# Altium footprint library NCV1117ST50T3G.PcbLib: 3 footprints
Each footprint in its own frame and in the unit in brackets; x right, y up, seen from the top. Pads: shape width x height; smd on the part's side, far side on the other; paste and mask are expansions set on the pad; w line width, h text height; cw(c..) or ccw(c..) is an arc to the next point about the centre after c.
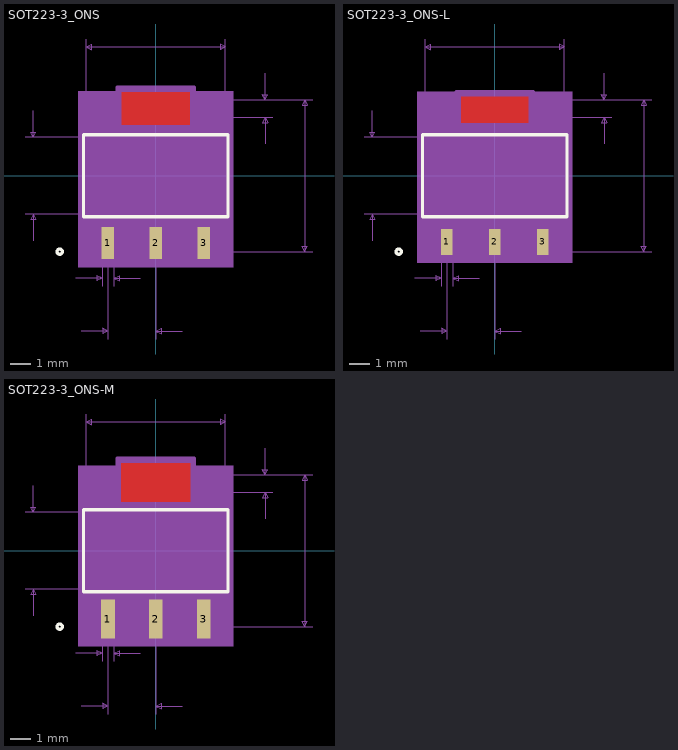
[diagram p0: the footprints below, top view; thin cyan lines are the x and y axes]

## SOT223-3_ONS [mil]
pads (3):
  rect 24x61 smd paste+0 mask+0: 1(-90.5,-127) 2(0,-127) 3(90.5,-127)
Top Layer:
  region: 64,96.5 64,157.5 -64,157.5 -64,96.5
Top Overlay:
  circle w6: c-181.5,-143.5 r5
  lines w6: -136.5,-77.5 136.5,-77.5 136.5,77.5 -136.5,77.5 -136.5,-77.5
Top Paste:
  region: 64,96.5 64,157.5 -64,157.5 -64,96.5
Top Solder:
  region: 65,82.5 65,171.5 -65,171.5 -65,82.5
Mechanical 5:
  region: -146.5,159.5 146.5,159.5 146.5,-172.5 -146.5,-172.5
Mechanical 7:
  lines w1: -246.5,-72.5 0,-72.5 ; -246.5,72.5 0,72.5 ; -231.5,-122.5 -231.5,-72.5 ; -231.5,122.5 -231.5,72.5 ; -151.5,-193.5 -101.5,-193.5 ; -140.5,-293.5 -90.5,-293.5 ; -131.5,72.5 -131.5,258.5 ; -101.5,-208.5 -101.5,-143.5 ; -90.5,-308.5 -90.5,-143.5 ; -79.5,-208.5 -79.5,-143.5 ; -29.5,-193.5 -79.5,-193.5 ; 0,-308.5 0,-143.5 296.5,-143.5 ; 0,110.5 221.5,110.5 ; 50,-293.5 0,-293.5 ; 131.5,72.5 131.5,258.5 ; 206.5,60.5 206.5,110.5 ; 206.5,193.5 206.5,143.5 ; 221.5,143.5 0,143.5 296.5,143.5 ; -231.5,-72.5 -236.5,-82.5 -226.5,-82.5 -231.5,-72.5 ; -231.5,72.5 -236.5,82.5 -226.5,82.5 -231.5,72.5 ; -131.5,243.5 131.5,243.5 ; -131.5,243.5 -121.5,248.5 -121.5,238.5 -131.5,243.5 ; -101.5,-193.5 -111.5,-188.5 -111.5,-198.5 -101.5,-193.5 ; -90.5,-293.5 -100.5,-288.5 -100.5,-298.5 -90.5,-293.5 ; -79.5,-193.5 -69.5,-188.5 -69.5,-198.5 -79.5,-193.5 ; 0,-293.5 10,-288.5 10,-298.5 0,-293.5 ; 131.5,243.5 121.5,248.5 121.5,238.5 131.5,243.5 ; 206.5,110.5 201.5,100.5 211.5,100.5 206.5,110.5 ; 206.5,143.5 201.5,153.5 211.5,153.5 206.5,143.5 ; 281.5,-143.5 281.5,143.5 ; 281.5,-143.5 276.5,-133.5 286.5,-133.5 281.5,-143.5 ; 281.5,143.5 276.5,133.5 286.5,133.5 281.5,143.5
  text "Default Pin Padstyle: RX24Y61D0T" at -400,-457.5 h50
  text "Alt 1 Padstyle: OX60Y90D30P" at -337.5,-507.5 h50
  text "Alt 2 Padstyle: OX90Y60D30P" at -337.5,-557.5 h50
  text "0.287in/7.29mm" at 301.5,-12.5 h25
  text "0.033in/0.838mm" at 226.5,114.5 h25
  text "0.09in/2.299mm" at -132.75,-338.5 h25
  text "0.022in/0.559mm" at -184.25,-238.5 h25
  text "0.263in/6.68mm" at -87.5,263.5 h25
  text "0.145in/3.683mm" at -439,-12.5 h25
Mechanical 13:
  circle w0: c-121.5,-62.5 r5
  lines w1: -131.5,-72.5 131.5,-72.5 131.5,72.5 -131.5,72.5 -131.5,-72.5 ; -101.5,-143.5 -101.5,-72.5 -79.5,-72.5 -79.5,-143.5 -101.5,-143.5 ; -63,72.5 63,72.5 63,143.5 -63,143.5 -63,72.5 ; -11,-143.5 -11,-72.5 11,-72.5 11,-143.5 -11,-143.5 ; 79.5,-143.5 79.5,-72.5 101.5,-72.5 101.5,-143.5 79.5,-143.5
Mechanical 15:
  region: -141.5,-82.5 -141.5,82.5 -73,82.5 -73,167.5 73,167.5 73,82.5 141.5,82.5 141.5,-82.5 111.5,-82.5 111.5,-167.5 -111.5,-167.5 -111.5,-82.5
  lines w6: -141.5,-82.5 -141.5,82.5 -73,82.5 -73,167.5 73,167.5 73,82.5 141.5,82.5 141.5,-82.5 111.5,-82.5 111.5,-167.5 -111.5,-167.5 -111.5,-82.5 -141.5,-82.5
3D body: height 10, standoff 0, extent 0,0 10,10

## SOT223-3_ONS-L [mil]
pads (3):
  rect 22x49 smd paste+0 mask+0: 1(-90.5,-125) 2(0,-125) 3(90.5,-125)
Top Layer:
  region: 63,100.5 63,149.5 -63,149.5 -63,100.5
Top Overlay:
  circle w6: c-181.5,-143.5 r5
  lines w6: -136.5,-77.5 136.5,-77.5 136.5,77.5 -136.5,77.5 -136.5,-77.5
Top Paste:
  region: 63,100.5 63,149.5 -63,149.5 -63,100.5
Top Solder:
  region: 63,90.5 63,155.5 -63,155.5 -63,90.5
Mechanical 5:
  region: -146.5,158.5 146.5,158.5 146.5,-164.5 -146.5,-164.5
Mechanical 7:
  lines w1: -246.5,-72.5 0,-72.5 ; -246.5,72.5 0,72.5 ; -231.5,-122.5 -231.5,-72.5 ; -231.5,122.5 -231.5,72.5 ; -151.5,-193.5 -101.5,-193.5 ; -140.5,-293.5 -90.5,-293.5 ; -131.5,72.5 -131.5,258.5 ; -101.5,-208.5 -101.5,-143.5 ; -90.5,-308.5 -90.5,-143.5 ; -79.5,-208.5 -79.5,-143.5 ; -29.5,-193.5 -79.5,-193.5 ; 0,-308.5 0,-143.5 296.5,-143.5 ; 0,110.5 221.5,110.5 ; 50,-293.5 0,-293.5 ; 131.5,72.5 131.5,258.5 ; 206.5,60.5 206.5,110.5 ; 206.5,193.5 206.5,143.5 ; 221.5,143.5 0,143.5 296.5,143.5 ; -231.5,-72.5 -236.5,-82.5 -226.5,-82.5 -231.5,-72.5 ; -231.5,72.5 -236.5,82.5 -226.5,82.5 -231.5,72.5 ; -131.5,243.5 131.5,243.5 ; -131.5,243.5 -121.5,248.5 -121.5,238.5 -131.5,243.5 ; -101.5,-193.5 -111.5,-188.5 -111.5,-198.5 -101.5,-193.5 ; -90.5,-293.5 -100.5,-288.5 -100.5,-298.5 -90.5,-293.5 ; -79.5,-193.5 -69.5,-188.5 -69.5,-198.5 -79.5,-193.5 ; 0,-293.5 10,-288.5 10,-298.5 0,-293.5 ; 131.5,243.5 121.5,248.5 121.5,238.5 131.5,243.5 ; 206.5,110.5 201.5,100.5 211.5,100.5 206.5,110.5 ; 206.5,143.5 201.5,153.5 211.5,153.5 206.5,143.5 ; 281.5,-143.5 281.5,143.5 ; 281.5,-143.5 276.5,-133.5 286.5,-133.5 281.5,-143.5 ; 281.5,143.5 276.5,133.5 286.5,133.5 281.5,143.5
  text "Default Pin Padstyle: RX22Y49D0T" at -400,-449.5 h50
  text "Alt 1 Padstyle: OX60Y90D30P" at -337.5,-499.5 h50
  text "Alt 2 Padstyle: OX90Y60D30P" at -337.5,-549.5 h50
  text "0.287in/7.29mm" at 301.5,-12.5 h25
  text "0.033in/0.838mm" at 226.5,114.5 h25
  text "0.09in/2.299mm" at -132.75,-338.5 h25
  text "0.022in/0.559mm" at -184.25,-238.5 h25
  text "0.263in/6.68mm" at -87.5,263.5 h25
  text "0.145in/3.683mm" at -439,-12.5 h25
Mechanical 13:
  circle w0: c-121.5,-62.5 r5
  lines w1: -131.5,-72.5 131.5,-72.5 131.5,72.5 -131.5,72.5 -131.5,-72.5 ; -101.5,-143.5 -101.5,-72.5 -79.5,-72.5 -79.5,-143.5 -101.5,-143.5 ; -63,72.5 63,72.5 63,143.5 -63,143.5 -63,72.5 ; -11,-143.5 -11,-72.5 11,-72.5 11,-143.5 -11,-143.5 ; 79.5,-143.5 79.5,-72.5 101.5,-72.5 101.5,-143.5 79.5,-143.5
Mechanical 15:
  region: -141.5,-82.5 -141.5,82.5 -73,82.5 -73,159.5 73,159.5 73,82.5 141.5,82.5 141.5,-82.5 111.5,-82.5 111.5,-159.5 -111.5,-159.5 -111.5,-82.5
  lines w6: -141.5,-82.5 -141.5,82.5 -73,82.5 -73,159.5 73,159.5 73,82.5 141.5,82.5 141.5,-82.5 111.5,-82.5 111.5,-159.5 -111.5,-159.5 -111.5,-82.5 -141.5,-82.5
3D body: height 10, standoff 0, extent 0,0 10,10

## SOT223-3_ONS-M [mil]
pads (3):
  rect 26x73 smd paste+0 mask+0: 1(-90.5,-129) 2(0,-129) 3(90.5,-129)
Top Layer:
  region: 65,92.5 65,165.5 -65,165.5 -65,92.5
Top Overlay:
  circle w6: c-181.5,-143.5 r5
  lines w6: -136.5,-77.5 136.5,-77.5 136.5,77.5 -136.5,77.5 -136.5,-77.5
Top Paste:
  region: 65,92.5 65,165.5 -65,165.5 -65,92.5
Top Solder:
  region: 67,74.5 67,187.5 -67,187.5 -67,74.5
Mechanical 5:
  region: -146.5,160.5 146.5,160.5 146.5,-180.5 -146.5,-180.5
Mechanical 7:
  lines w1: -246.5,-72.5 0,-72.5 ; -246.5,72.5 0,72.5 ; -231.5,-122.5 -231.5,-72.5 ; -231.5,122.5 -231.5,72.5 ; -151.5,-193.5 -101.5,-193.5 ; -140.5,-293.5 -90.5,-293.5 ; -131.5,72.5 -131.5,258.5 ; -101.5,-208.5 -101.5,-143.5 ; -90.5,-308.5 -90.5,-143.5 ; -79.5,-208.5 -79.5,-143.5 ; -29.5,-193.5 -79.5,-193.5 ; 0,-308.5 0,-143.5 296.5,-143.5 ; 0,110.5 221.5,110.5 ; 50,-293.5 0,-293.5 ; 131.5,72.5 131.5,258.5 ; 206.5,60.5 206.5,110.5 ; 206.5,193.5 206.5,143.5 ; 221.5,143.5 0,143.5 296.5,143.5 ; -231.5,-72.5 -236.5,-82.5 -226.5,-82.5 -231.5,-72.5 ; -231.5,72.5 -236.5,82.5 -226.5,82.5 -231.5,72.5 ; -131.5,243.5 131.5,243.5 ; -131.5,243.5 -121.5,248.5 -121.5,238.5 -131.5,243.5 ; -101.5,-193.5 -111.5,-188.5 -111.5,-198.5 -101.5,-193.5 ; -90.5,-293.5 -100.5,-288.5 -100.5,-298.5 -90.5,-293.5 ; -79.5,-193.5 -69.5,-188.5 -69.5,-198.5 -79.5,-193.5 ; 0,-293.5 10,-288.5 10,-298.5 0,-293.5 ; 131.5,243.5 121.5,248.5 121.5,238.5 131.5,243.5 ; 206.5,110.5 201.5,100.5 211.5,100.5 206.5,110.5 ; 206.5,143.5 201.5,153.5 211.5,153.5 206.5,143.5 ; 281.5,-143.5 281.5,143.5 ; 281.5,-143.5 276.5,-133.5 286.5,-133.5 281.5,-143.5 ; 281.5,143.5 276.5,133.5 286.5,133.5 281.5,143.5
  text "Default Pin Padstyle: RX26Y73D0T" at -400,-465.5 h50
  text "Alt 1 Padstyle: OX60Y90D30P" at -337.5,-515.5 h50
  text "Alt 2 Padstyle: OX90Y60D30P" at -337.5,-565.5 h50
  text "0.287in/7.29mm" at 301.5,-12.5 h25
  text "0.033in/0.838mm" at 226.5,114.5 h25
  text "0.09in/2.299mm" at -132.75,-338.5 h25
  text "0.022in/0.559mm" at -184.25,-238.5 h25
  text "0.263in/6.68mm" at -87.5,263.5 h25
  text "0.145in/3.683mm" at -439,-12.5 h25
Mechanical 13:
  circle w0: c-121.5,-62.5 r5
  lines w1: -131.5,-72.5 131.5,-72.5 131.5,72.5 -131.5,72.5 -131.5,-72.5 ; -101.5,-143.5 -101.5,-72.5 -79.5,-72.5 -79.5,-143.5 -101.5,-143.5 ; -63,72.5 63,72.5 63,143.5 -63,143.5 -63,72.5 ; -11,-143.5 -11,-72.5 11,-72.5 11,-143.5 -11,-143.5 ; 79.5,-143.5 79.5,-72.5 101.5,-72.5 101.5,-143.5 79.5,-143.5
Mechanical 15:
  region: -141.5,-82.5 -141.5,82.5 -73,82.5 -73,175.5 73,175.5 73,82.5 141.5,82.5 141.5,-82.5 111.5,-82.5 111.5,-175.5 -111.5,-175.5 -111.5,-82.5
  lines w6: -141.5,-82.5 -141.5,82.5 -73,82.5 -73,175.5 73,175.5 73,82.5 141.5,82.5 141.5,-82.5 111.5,-82.5 111.5,-175.5 -111.5,-175.5 -111.5,-82.5 -141.5,-82.5
3D body: height 10, standoff 0, extent 0,0 10,10